# EAGLE library part LM2662M_NOPB (library LM2662M_NOPB)
200mA switched capacitor voltage converter Source: Datasheet <http://www.ti.com/lit/ds/symlink/lm2662.pdf>
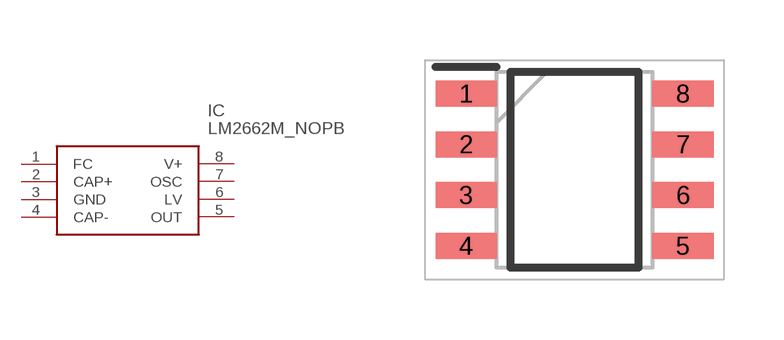
[diagram p0: symbol with the pads of SOIC127P600X175-8N; footprint SOIC127P600X175-8N]

Designator prefix IC

## LM2662M_NOPB (Description: 200mA switched capacitor voltage converter; Height: 1.75mm; Manufacturer_Name: Texas Instruments; Manufacturer_Part_Number: LM2662M/NOPB; Mouser_Part_Number: 926-LM2662M/NOPB; Mouser_Price-Stock: https://www.mouser.co.uk/ProductDetail/Texas-Instruments/LM2662M-NOPB?qs=X1J7HmVL2ZG04Kx675NIpA%3D%3D)  [SOIC127P600X175-8N]
1  FC
2  CAP+
3  GND
4  CAP-
5  OUT
6  LV
7  OSC
8  V+

## Footprint SOIC127P600X175-8N (pad centres in mm)
D0008A
smd 1.528 x 0.65: 1 -2.711,1.905; 2 -2.711,0.635; 3 -2.711,-0.635; 4 -2.711,-1.905; 5 2.711,-1.905; 6 2.711,-0.635; 7 2.711,0.635; 8 2.711,1.905